# Altium schematic symbol library SCH - MCU - STM32 - ST MICROELECTRONICS STM32MP151FABX LFBGA354.SchLib: 1 symbol
Pins are listed as number, name and electrical type; pins without a type are passive.

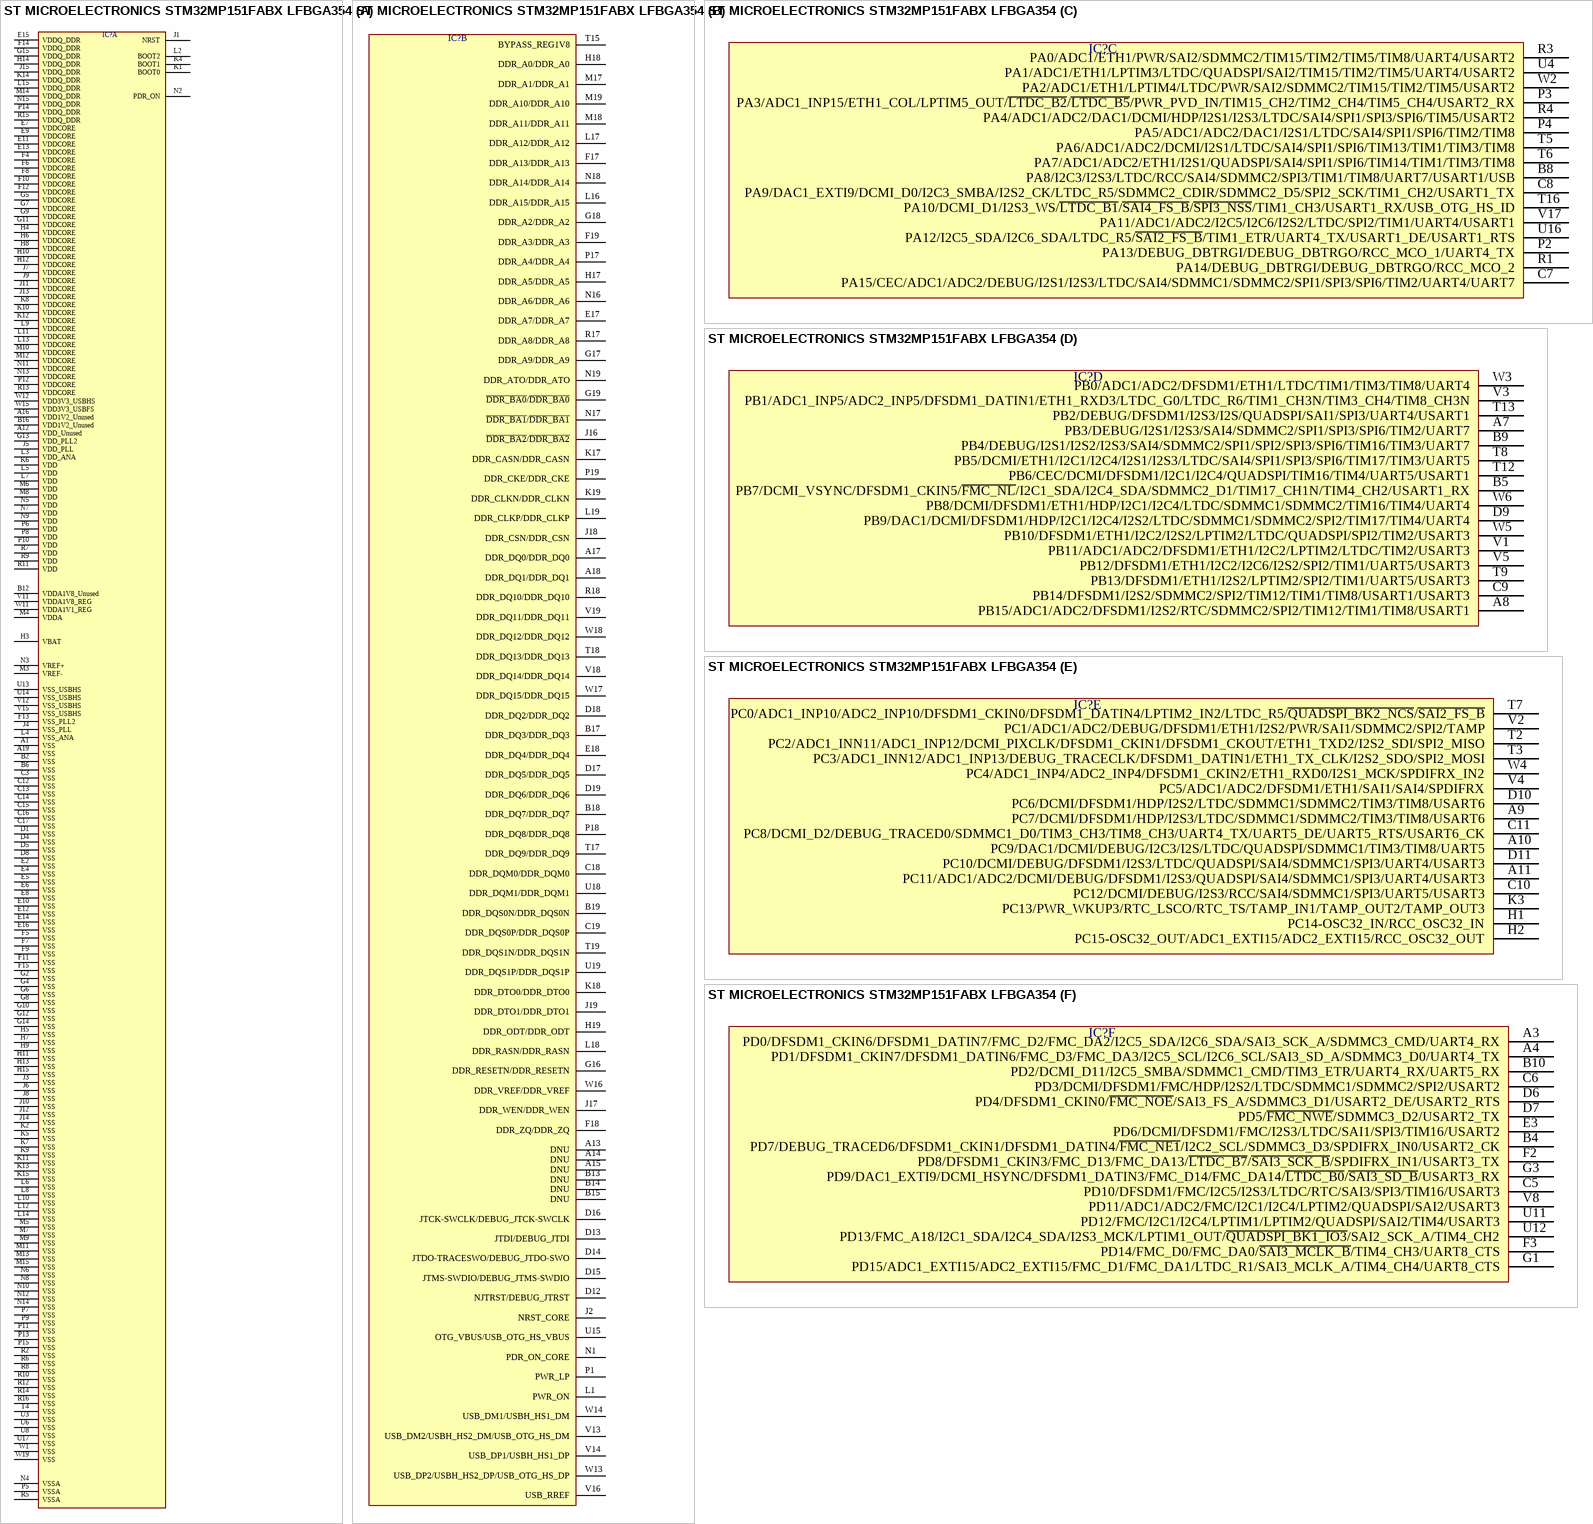
[diagram p0: symbol ST MICROELECTRONICS STM32MP151FABX LFBGA354]

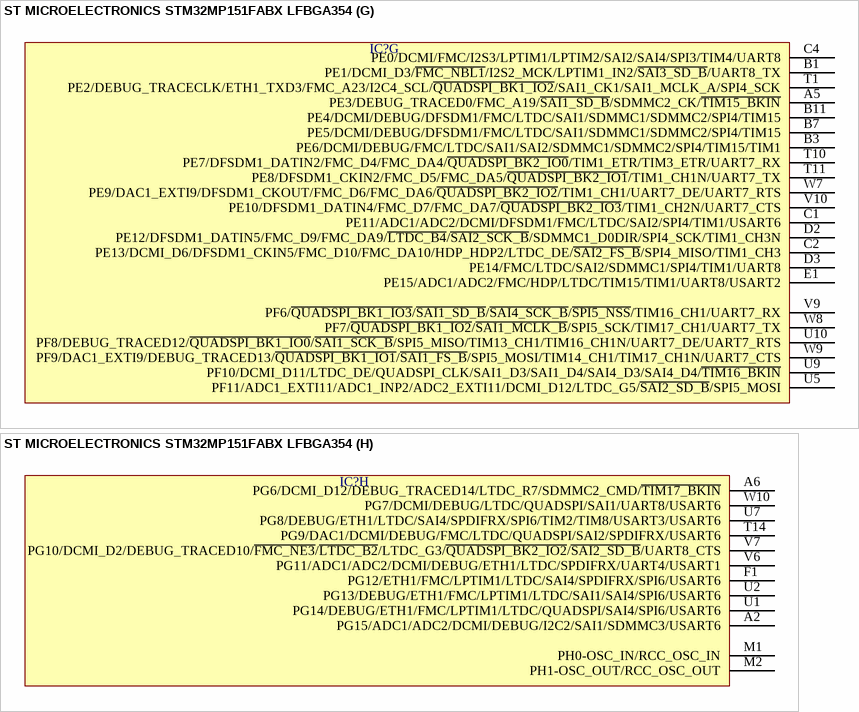
[diagram p1: symbol ST MICROELECTRONICS STM32MP151FABX LFBGA354]

## ST MICROELECTRONICS STM32MP151FABX LFBGA354
designator IC?  (value not drawn)
part A pins: A1 VSS, A12 VDD_Unused, A16 VDD1V2_Unused, A19 VSS, B2 VSS, B6 VSS, B12 VDDA1V8_Unused, B16 VDD1V2_Unused, C3 VSS, C12 VSS, C13 VSS, C14 VSS, C15 VSS, C16 VSS, C17 VSS, D1 VSS, D4 VSS, D5 VSS, D8 VSS, E2 VSS, E4 VSS, E5 VSS, E6 VSS, E7 VDDCORE, E8 VSS, E9 VDDCORE, E10 VSS, E11 VDDCORE, E12 VSS, E13 VDDCORE, E14 VSS, E15 VDDQ_DDR, E16 VSS, F4 VDDCORE, F5 VSS, F6 VDDCORE, F7 VSS, F8 VDDCORE, F9 VSS, F10 VDDCORE, F11 VSS, F12 VDDCORE, F13 VSS_PLL2, F14 VDDQ_DDR, F15 VSS, G2 VSS, G4 VSS, G5 VDDCORE, G6 VSS, G7 VDDCORE, G8 VSS, G9 VDDCORE, G10 VSS, G11 VDDCORE, G12 VSS, G13 VDD_PLL2, G14 VSS, G15 VDDQ_DDR, H3 VBAT, H4 VDDCORE, H5 VSS, H6 VDDCORE, H7 VSS, H8 VDDCORE, H9 VSS, H10 VDDCORE, H11 VSS, H12 VDDCORE, H13 VSS, H14 VDDQ_DDR, H15 VSS, J1 NRST, J3 VSS, J4 VSS_PLL, J5 VDD_PLL, J6 VSS, J7 VDDCORE, J8 VSS, J9 VDDCORE, J10 VSS, J11 VDDCORE, J12 VSS, J13 VDDCORE, J14 VSS, J15 VDDQ_DDR, K1 BOOT0, K2 VSS, K4 BOOT1, K5 VSS, K6 VDD, K7 VSS, K8 VDDCORE, K9 VSS, K10 VDDCORE, K11 VSS, K12 VDDCORE, K13 VSS, K14 VDDQ_DDR, K15 VSS, L2 BOOT2, L3 VDD_ANA, L4 VSS_ANA, L5 VDD, L6 VSS, L7 VDD, L8 VSS, L9 VDDCORE, L10 VSS, L11 VDDCORE, L12 VSS, L13 VDDCORE, L14 VSS, L15 VDDQ_DDR, M3 VREF-, M4 VDDA, M5 VSS, M6 VDD, M7 VSS, M8 VDD, M9 VSS, M10 VDDCORE, M11 VSS, M12 VDDCORE, M13 VSS, M14 VDDQ_DDR, M15 VSS, N2 PDR_ON, N3 VREF+, N4 VSSA, N5 VDD, N6 VSS, N7 VDD, N8 VSS, N9 VDD, N10 VSS, N11 VDDCORE, N12 VSS, N13 VDDCORE, N14 VSS, N15 VDDQ_DDR, P5 VSSA, P6 VDD, P7 VSS, P8 VDD, P9 VSS, P10 VDD, P11 VSS, P12 VDDCORE, P13 VSS, P14 VDDQ_DDR, P15 VSS, R2 VSS, R5 VSSA, R6 VSS, R7 VDD, R8 VSS, R9 VDD, R10 VSS, R11 VDD, R12 VSS, R13 VDDCORE, R14 VSS, R15 VDDQ_DDR, R16 VSS, T4 VSS, U3 VSS, U6 VSS, U8 VSS, U13 VSS_USBHS, U14 VSS_USBHS, U17 VSS, V11 VDDA1V8_REG, V12 VSS_USBHS, V15 VSS_USBHS, W1 VSS, W11 VDDA1V1_REG, W12 VDD3V3_USBHS, W15 VDD3V3_USBFS, W19 VSS
part B pins: A13 DNU, A14 DNU, A15 DNU, A17 DDR_DQ0/DDR_DQ0, A18 DDR_DQ1/DDR_DQ1, B13 DNU, B14 DNU, B15 DNU, B17 DDR_DQ3/DDR_DQ3, B18 DDR_DQ7/DDR_DQ7, B19 DDR_DQS0N/DDR_DQS0N, C18 DDR_DQM0/DDR_DQM0, C19 DDR_DQS0P/DDR_DQS0P, D12 NJTRST/DEBUG_JTRST, D13 JTDI/DEBUG_JTDI, D14 JTDO-TRACESWO/DEBUG_JTDO-SWO, D15 JTMS-SWDIO/DEBUG_JTMS-SWDIO, D16 JTCK-SWCLK/DEBUG_JTCK-SWCLK, D17 DDR_DQ5/DDR_DQ5, D18 DDR_DQ2/DDR_DQ2, D19 DDR_DQ6/DDR_DQ6, E17 DDR_A7/DDR_A7, E18 DDR_DQ4/DDR_DQ4, F17 DDR_A13/DDR_A13, F18 DDR_ZQ/DDR_ZQ, F19 DDR_A3/DDR_A3, G16 DDR_RESETN/DDR_RESETN, G17 DDR_A9/DDR_A9, G18 DDR_A2/DDR_A2, G19 ~{DDR_BA0}/~{DDR_BA0}, H17 DDR_A5/DDR_A5, H18 DDR_A0/DDR_A0, H19 DDR_ODT/DDR_ODT, J2 NRST_CORE, J16 ~{DDR_BA2}/~{DDR_BA2}, J17 DDR_WEN/DDR_WEN, J18 DDR_CSN/DDR_CSN, J19 DDR_DTO1/DDR_DTO1, K17 DDR_CASN/DDR_CASN, K18 DDR_DTO0/DDR_DTO0, K19 DDR_CLKN/DDR_CLKN, L1 PWR_ON, L16 DDR_A15/DDR_A15, L17 DDR_A12/DDR_A12, L18 DDR_RASN/DDR_RASN, L19 DDR_CLKP/DDR_CLKP, M17 DDR_A1/DDR_A1, M18 DDR_A11/DDR_A11, M19 DDR_A10/DDR_A10, N1 PDR_ON_CORE, N16 DDR_A6/DDR_A6, N17 ~{DDR_BA1}/~{DDR_BA1}, N18 DDR_A14/DDR_A14, N19 DDR_ATO/DDR_ATO, P1 PWR_LP, P17 DDR_A4/DDR_A4, P18 DDR_DQ8/DDR_DQ8, P19 DDR_CKE/DDR_CKE, R17 DDR_A8/DDR_A8, R18 DDR_DQ10/DDR_DQ10, T15 BYPASS_REG1V8, T17 DDR_DQ9/DDR_DQ9, T18 DDR_DQ13/DDR_DQ13, T19 DDR_DQS1N/DDR_DQS1N, U15 OTG_VBUS/USB_OTG_HS_VBUS, U18 DDR_DQM1/DDR_DQM1, U19 DDR_DQS1P/DDR_DQS1P, V13 USB_DM2/USBH_HS2_DM/USB_OTG_HS_DM, V14 USB_DP1/USBH_HS1_DP, V16 USB_RREF, V18 DDR_DQ14/DDR_DQ14, V19 DDR_DQ11/DDR_DQ11, W13 USB_DP2/USBH_HS2_DP/USB_OTG_HS_DP, W14 USB_DM1/USBH_HS1_DM, W16 DDR_VREF/DDR_VREF, W17 DDR_DQ15/DDR_DQ15, W18 DDR_DQ12/DDR_DQ12
part C pins: B8 PA8/I2C3/I2S3/LTDC/RCC/SAI4/SDMMC2/SPI3/TIM1/TIM8/UART7/USART1/USB, C7 PA15/CEC/ADC1/ADC2/DEBUG/I2S1/I2S3/LTDC/SAI4/SDMMC1/SDMMC2/SPI1/SPI3/SPI6/TIM2/UART4/UART7, C8 PA9/DAC1_EXTI9/DCMI_D0/I2C3_SMBA/I2S2_CK/LTDC_R5/SDMMC2_CDIR/SDMMC2_D5/SPI2_SCK/TIM1_CH2/USART1_TX, P2 PA13/DEBUG_DBTRGI/DEBUG_DBTRGO/RCC_MCO_1/UART4_TX, P3 PA3/ADC1_INP15/ETH1_COL/LPTIM5_OUT/~{LTDC_B2}/~{LTDC_B5}/PWR_PVD_IN/TIM15_CH2/TIM2_CH4/TIM5_CH4/USART2_RX, P4 PA5/ADC1/ADC2/DAC1/I2S1/LTDC/SAI4/SPI1/SPI6/TIM2/TIM8, R1 PA14/DEBUG_DBTRGI/DEBUG_DBTRGO/RCC_MCO_2, R3 PA0/ADC1/ETH1/PWR/SAI2/SDMMC2/TIM15/TIM2/TIM5/TIM8/UART4/USART2, R4 PA4/ADC1/ADC2/DAC1/DCMI/HDP/I2S1/I2S3/LTDC/SAI4/SPI1/SPI3/SPI6/TIM5/USART2, T5 PA6/ADC1/ADC2/DCMI/I2S1/LTDC/SAI4/SPI1/SPI6/TIM13/TIM1/TIM3/TIM8, T6 PA7/ADC1/ADC2/ETH1/I2S1/QUADSPI/SAI4/SPI1/SPI6/TIM14/TIM1/TIM3/TIM8, T16 PA10/DCMI_D1/I2S3_WS/~{LTDC_B1}/~{SAI4_FS_B}/~{SPI3_NSS}/TIM1_CH3/USART1_RX/USB_OTG_HS_ID, U4 PA1/ADC1/ETH1/LPTIM3/LTDC/QUADSPI/SAI2/TIM15/TIM2/TIM5/UART4/USART2, U16 PA12/I2C5_SDA/I2C6_SDA/LTDC_R5/~{SAI2_FS_B}/TIM1_ETR/UART4_TX/USART1_DE/USART1_RTS, V17 PA11/ADC1/ADC2/I2C5/I2C6/I2S2/LTDC/SPI2/TIM1/UART4/USART1, W2 PA2/ADC1/ETH1/LPTIM4/LTDC/PWR/SAI2/SDMMC2/TIM15/TIM2/TIM5/USART2
part D pins: A7 PB3/DEBUG/I2S1/I2S3/SAI4/SDMMC2/SPI1/SPI3/SPI6/TIM2/UART7, A8 PB15/ADC1/ADC2/DFSDM1/I2S2/RTC/SDMMC2/SPI2/TIM12/TIM1/TIM8/USART1, B5 PB7/DCMI_VSYNC/DFSDM1_CKIN5/~{FMC_NL}/I2C1_SDA/I2C4_SDA/SDMMC2_D1/TIM17_CH1N/TIM4_CH2/USART1_RX, B9 PB4/DEBUG/I2S1/I2S2/I2S3/SAI4/SDMMC2/SPI1/SPI2/SPI3/SPI6/TIM16/TIM3/UART7, C9 PB14/DFSDM1/I2S2/SDMMC2/SPI2/TIM12/TIM1/TIM8/USART1/USART3, D9 PB9/DAC1/DCMI/DFSDM1/HDP/I2C1/I2C4/I2S2/LTDC/SDMMC1/SDMMC2/SPI2/TIM17/TIM4/UART4, T8 PB5/DCMI/ETH1/I2C1/I2C4/I2S1/I2S3/LTDC/SAI4/SPI1/SPI3/SPI6/TIM17/TIM3/UART5, T9 PB13/DFSDM1/ETH1/I2S2/LPTIM2/SPI2/TIM1/UART5/USART3, T12 PB6/CEC/DCMI/DFSDM1/I2C1/I2C4/QUADSPI/TIM16/TIM4/UART5/USART1, T13 PB2/DEBUG/DFSDM1/I2S3/I2S/QUADSPI/SAI1/SPI3/UART4/USART1, V1 PB11/ADC1/ADC2/DFSDM1/ETH1/I2C2/LPTIM2/LTDC/TIM2/USART3, V3 PB1/ADC1_INP5/ADC2_INP5/DFSDM1_DATIN1/ETH1_RXD3/LTDC_G0/LTDC_R6/TIM1_CH3N/TIM3_CH4/TIM8_CH3N, V5 PB12/DFSDM1/ETH1/I2C2/I2C6/I2S2/SPI2/TIM1/UART5/USART3, W3 PB0/ADC1/ADC2/DFSDM1/ETH1/LTDC/TIM1/TIM3/TIM8/UART4, W5 PB10/DFSDM1/ETH1/I2C2/I2S2/LPTIM2/LTDC/QUADSPI/SPI2/TIM2/USART3, W6 PB8/DCMI/DFSDM1/ETH1/HDP/I2C1/I2C4/LTDC/SDMMC1/SDMMC2/TIM16/TIM4/UART4
part E pins: A9 PC7/DCMI/DFSDM1/HDP/I2S3/LTDC/SDMMC1/SDMMC2/TIM3/TIM8/USART6, A10 PC9/DAC1/DCMI/DEBUG/I2C3/I2S/LTDC/QUADSPI/SDMMC1/TIM3/TIM8/UART5, A11 PC11/ADC1/ADC2/DCMI/DEBUG/DFSDM1/I2S3/QUADSPI/SAI4/SDMMC1/SPI3/UART4/USART3, C10 PC12/DCMI/DEBUG/I2S3/RCC/SAI4/SDMMC1/SPI3/UART5/USART3, C11 PC8/DCMI_D2/DEBUG_TRACED0/SDMMC1_D0/TIM3_CH3/TIM8_CH3/UART4_TX/UART5_DE/UART5_RTS/USART6_CK, D10 PC6/DCMI/DFSDM1/HDP/I2S2/LTDC/SDMMC1/SDMMC2/TIM3/TIM8/USART6, D11 PC10/DCMI/DEBUG/DFSDM1/I2S3/LTDC/QUADSPI/SAI4/SDMMC1/SPI3/UART4/USART3, H1 PC14-OSC32_IN/RCC_OSC32_IN, H2 PC15-OSC32_OUT/ADC1_EXTI15/ADC2_EXTI15/RCC_OSC32_OUT, K3 PC13/PWR_WKUP3/RTC_LSCO/RTC_TS/TAMP_IN1/TAMP_OUT2/TAMP_OUT3, T2 PC2/ADC1_INN11/ADC1_INP12/DCMI_PIXCLK/DFSDM1_CKIN1/DFSDM1_CKOUT/ETH1_TXD2/I2S2_SDI/SPI2_MISO, T3 PC3/ADC1_INN12/ADC1_INP13/DEBUG_TRACECLK/DFSDM1_DATIN1/ETH1_TX_CLK/I2S2_SDO/SPI2_MOSI, T7 PC0/ADC1_INP10/ADC2_INP10/DFSDM1_CKIN0/DFSDM1_DATIN4/LPTIM2_IN2/LTDC_R5/~{QUADSPI_BK2_NCS}/~{SAI2_FS_B}, V2 PC1/ADC1/ADC2/DEBUG/DFSDM1/ETH1/I2S2/PWR/SAI1/SDMMC2/SPI2/TAMP, V4 PC5/ADC1/ADC2/DFSDM1/ETH1/SAI1/SAI4/SPDIFRX, W4 PC4/ADC1_INP4/ADC2_INP4/DFSDM1_CKIN2/ETH1_RXD0/I2S1_MCK/SPDIFRX_IN2
part F pins: A3 PD0/DFSDM1_CKIN6/DFSDM1_DATIN7/FMC_D2/FMC_DA2/I2C5_SDA/I2C6_SDA/SAI3_SCK_A/SDMMC3_CMD/UART4_RX, A4 PD1/DFSDM1_CKIN7/DFSDM1_DATIN6/FMC_D3/FMC_DA3/I2C5_SCL/I2C6_SCL/SAI3_SD_A/SDMMC3_D0/UART4_TX, B4 PD7/DEBUG_TRACED6/DFSDM1_CKIN1/DFSDM1_DATIN4/~{FMC_NE1}/I2C2_SCL/SDMMC3_D3/SPDIFRX_IN0/USART2_CK, B10 PD2/DCMI_D11/I2C5_SMBA/SDMMC1_CMD/TIM3_ETR/UART4_RX/UART5_RX, C5 PD10/DFSDM1/FMC/I2C5/I2S3/LTDC/RTC/SAI3/SPI3/TIM16/USART3, C6 PD3/DCMI/DFSDM1/FMC/HDP/I2S2/LTDC/SDMMC1/SDMMC2/SPI2/USART2, D6 PD4/DFSDM1_CKIN0/~{FMC_NOE}/SAI3_FS_A/SDMMC3_D1/USART2_DE/USART2_RTS, D7 PD5/~{FMC_NWE}/SDMMC3_D2/USART2_TX, E3 PD6/DCMI/DFSDM1/FMC/I2S3/LTDC/SAI1/SPI3/TIM16/USART2, F2 PD8/DFSDM1_CKIN3/FMC_D13/FMC_DA13/~{LTDC_B7}/~{SAI3_SCK_B}/SPDIFRX_IN1/USART3_TX, F3 PD14/FMC_D0/FMC_DA0/~{SAI3_MCLK_B}/TIM4_CH3/UART8_CTS, G1 PD15/ADC1_EXTI15/ADC2_EXTI15/FMC_D1/FMC_DA1/LTDC_R1/SAI3_MCLK_A/TIM4_CH4/UART8_CTS, G3 PD9/DAC1_EXTI9/DCMI_HSYNC/DFSDM1_DATIN3/FMC_D14/FMC_DA14/~{LTDC_B0}/~{SAI3_SD_B}/USART3_RX, U11 PD12/FMC/I2C1/I2C4/LPTIM1/LPTIM2/QUADSPI/SAI2/TIM4/USART3, U12 PD13/FMC_A18/I2C1_SDA/I2C4_SDA/I2S3_MCK/LPTIM1_OUT/~{QUADSPI_BK1_IO3}/SAI2_SCK_A/TIM4_CH2, V8 PD11/ADC1/ADC2/FMC/I2C1/I2C4/LPTIM2/QUADSPI/SAI2/USART3
part G pins: A5 PE3/DEBUG_TRACED0/FMC_A19/~{SAI1_SD_B}/SDMMC2_CK/~{TIM15_BKIN}, B1 PE1/DCMI_D3/~{FMC_NBL1}/I2S2_MCK/LPTIM1_IN2/~{SAI3_SD_B}/UART8_TX, B3 PE6/DCMI/DEBUG/FMC/LTDC/SAI1/SAI2/SDMMC1/SDMMC2/SPI4/TIM15/TIM1, B7 PE5/DCMI/DEBUG/DFSDM1/FMC/LTDC/SAI1/SDMMC1/SDMMC2/SPI4/TIM15, B11 PE4/DCMI/DEBUG/DFSDM1/FMC/LTDC/SAI1/SDMMC1/SDMMC2/SPI4/TIM15, C1 PE11/ADC1/ADC2/DCMI/DFSDM1/FMC/LTDC/SAI2/SPI4/TIM1/USART6, C2 PE13/DCMI_D6/DFSDM1_CKIN5/FMC_D10/FMC_DA10/HDP_HDP2/LTDC_DE/~{SAI2_FS_B}/SPI4_MISO/TIM1_CH3, C4 PE0/DCMI/FMC/I2S3/LPTIM1/LPTIM2/SAI2/SAI4/SPI3/TIM4/UART8, D2 PE12/DFSDM1_DATIN5/FMC_D9/FMC_DA9/~{LTDC_B4}/~{SAI2_SCK_B}/SDMMC1_D0DIR/SPI4_SCK/TIM1_CH3N, D3 PE14/FMC/LTDC/SAI2/SDMMC1/SPI4/TIM1/UART8, E1 PE15/ADC1/ADC2/FMC/HDP/LTDC/TIM15/TIM1/UART8/USART2, T1 PE2/DEBUG_TRACECLK/ETH1_TXD3/FMC_A23/I2C4_SCL/~{QUADSPI_BK1_IO2}/SAI1_CK1/SAI1_MCLK_A/SPI4_SCK, T10 PE7/DFSDM1_DATIN2/FMC_D4/FMC_DA4/~{QUADSPI_BK2_IO0}/TIM1_ETR/TIM3_ETR/UART7_RX, T11 PE8/DFSDM1_CKIN2/FMC_D5/FMC_DA5/~{QUADSPI_BK2_IO1}/TIM1_CH1N/UART7_TX, U5 PF11/ADC1_EXTI11/ADC1_INP2/ADC2_EXTI11/DCMI_D12/LTDC_G5/~{SAI2_SD_B}/SPI5_MOSI, U9 PF10/DCMI_D11/LTDC_DE/QUADSPI_CLK/SAI1_D3/SAI1_D4/SAI4_D3/SAI4_D4/~{TIM16_BKIN}, U10 PF8/DEBUG_TRACED12/~{QUADSPI_BK1_IO0}/~{SAI1_SCK_B}/SPI5_MISO/TIM13_CH1/TIM16_CH1N/UART7_DE/UART7_RTS, V9 PF6/~{QUADSPI_BK1_IO3}/~{SAI1_SD_B}/~{SAI4_SCK_B}/~{SPI5_NSS}/TIM16_CH1/UART7_RX, V10 PE10/DFSDM1_DATIN4/FMC_D7/FMC_DA7/~{QUADSPI_BK2_IO3}/TIM1_CH2N/UART7_CTS, W7 PE9/DAC1_EXTI9/DFSDM1_CKOUT/FMC_D6/FMC_DA6/~{QUADSPI_BK2_IO2}/TIM1_CH1/UART7_DE/UART7_RTS, W8 PF7/~{QUADSPI_BK1_IO2}/~{SAI1_MCLK_B}/SPI5_SCK/TIM17_CH1/UART7_TX, W9 PF9/DAC1_EXTI9/DEBUG_TRACED13/~{QUADSPI_BK1_IO1}/~{SAI1_FS_B}/SPI5_MOSI/TIM14_CH1/TIM17_CH1N/UART7_CTS
part H pins: A2 PG15/ADC1/ADC2/DCMI/DEBUG/I2C2/SAI1/SDMMC3/USART6, A6 PG6/DCMI_D12/DEBUG_TRACED14/LTDC_R7/SDMMC2_CMD/~{TIM17_BKIN}, F1 PG12/ETH1/FMC/LPTIM1/LTDC/SAI4/SPDIFRX/SPI6/USART6, M1 PH0-OSC_IN/RCC_OSC_IN, M2 PH1-OSC_OUT/RCC_OSC_OUT, T14 PG9/DAC1/DCMI/DEBUG/FMC/LTDC/QUADSPI/SAI2/SPDIFRX/USART6, U1 PG14/DEBUG/ETH1/FMC/LPTIM1/LTDC/QUADSPI/SAI4/SPI6/USART6, U2 PG13/DEBUG/ETH1/FMC/LPTIM1/LTDC/SAI1/SAI4/SPI6/USART6, U7 PG8/DEBUG/ETH1/LTDC/SAI4/SPDIFRX/SPI6/TIM2/TIM8/USART3/USART6, V6 PG11/ADC1/ADC2/DCMI/DEBUG/ETH1/LTDC/SPDIFRX/UART4/USART1, V7 PG10/DCMI_D2/DEBUG_TRACED10/~{FMC_NE3}/~{LTDC_B2}/LTDC_G3/~{QUADSPI_BK2_IO2}/~{SAI2_SD_B}/UART8_CTS, W10 PG7/DCMI/DEBUG/LTDC/QUADSPI/SAI1/UART8/USART6